# Altium footprint library Resistors.PcbLib: 2 footprints
Each footprint in its own frame and in the unit in brackets; x right, y up, seen from the top. Pads: shape width x height; smd on the part's side, far side on the other; paste and mask are expansions set on the pad; w line width, h text height; cw(c..) or ccw(c..) is an arc to the next point about the centre after c.
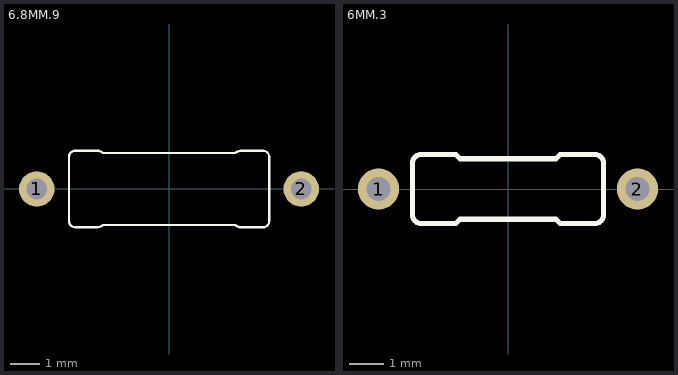
[diagram p0: the footprints below, top view; thin cyan lines are the x and y axes]

## 6.8MM.9 [mm]
pads (2):
  round 1.208 hole 0.7: 1(-4.5,0) 2(4.5,0)
Top Overlay:
  lines w0.076: 0,-1.225 -2.25,-1.225 cw(c-2.431,-1.044) -2.431,-1.3 -2.45,-1.3 -2.5,-1.3 -2.625,-1.3 -3.2,-1.3 cw(c-3.2,-1.1) -3.4,-1.1 -3.4,0 -3.4,1.1 cw(c-3.2,1.1) -3.2,1.3 -2.625,1.3 -2.5,1.3 -2.45,1.3 -2.431,1.3 cw(c-2.431,1.044) -2.25,1.225 0,1.225 ; 0.009,-1.226 2.259,-1.226 ccw(c2.44,-1.045) 2.44,-1.301 2.459,-1.301 2.509,-1.301 2.634,-1.301 3.209,-1.301 ccw(c3.209,-1.101) 3.409,-1.101 3.409,-0.001 3.409,1.099 ccw(c3.209,1.099) 3.209,1.299 2.634,1.299 2.509,1.299 2.459,1.299 2.44,1.299 ccw(c2.44,1.042) 2.259,1.224 0.009,1.224
3D body: height 2.57, standoff 0.07, extent -3.4,-1.23 3.4,1.27

## 6MM.3 [mm]
pads (2):
  round 1.208 hole 0.7: 1(-3.81,0) 2(3.81,0)
Top Overlay:
  lines w0.152: -2.81,-0.762 ccw(c-2.556,-0.762) -2.556,-1.016 -1.54,-1.016 -1.413,-0.889 1.413,-0.889 1.54,-1.016 1.794,-1.016 2.302,-1.016 2.556,-1.016 ccw(c2.556,-0.762) 2.81,-0.762 2.81,0.762 ccw(c2.556,0.762) 2.556,1.016 1.54,1.016 1.413,0.889 -1.413,0.889 -1.54,1.016 -2.556,1.016 ccw(c-2.556,0.762) -2.81,0.762 -2.81,-0.762
Top Designator:
  text ".Designator" at -7.618,-0.508 h1.52
3D body: height 2.57, standoff 0.07, extent -3.4,-1.23 3.4,1.27